# Altium schematic symbol library PowerUnits.SchLib: 39 symbols
Pins are listed as number, name and electrical type; pins without a type are passive.

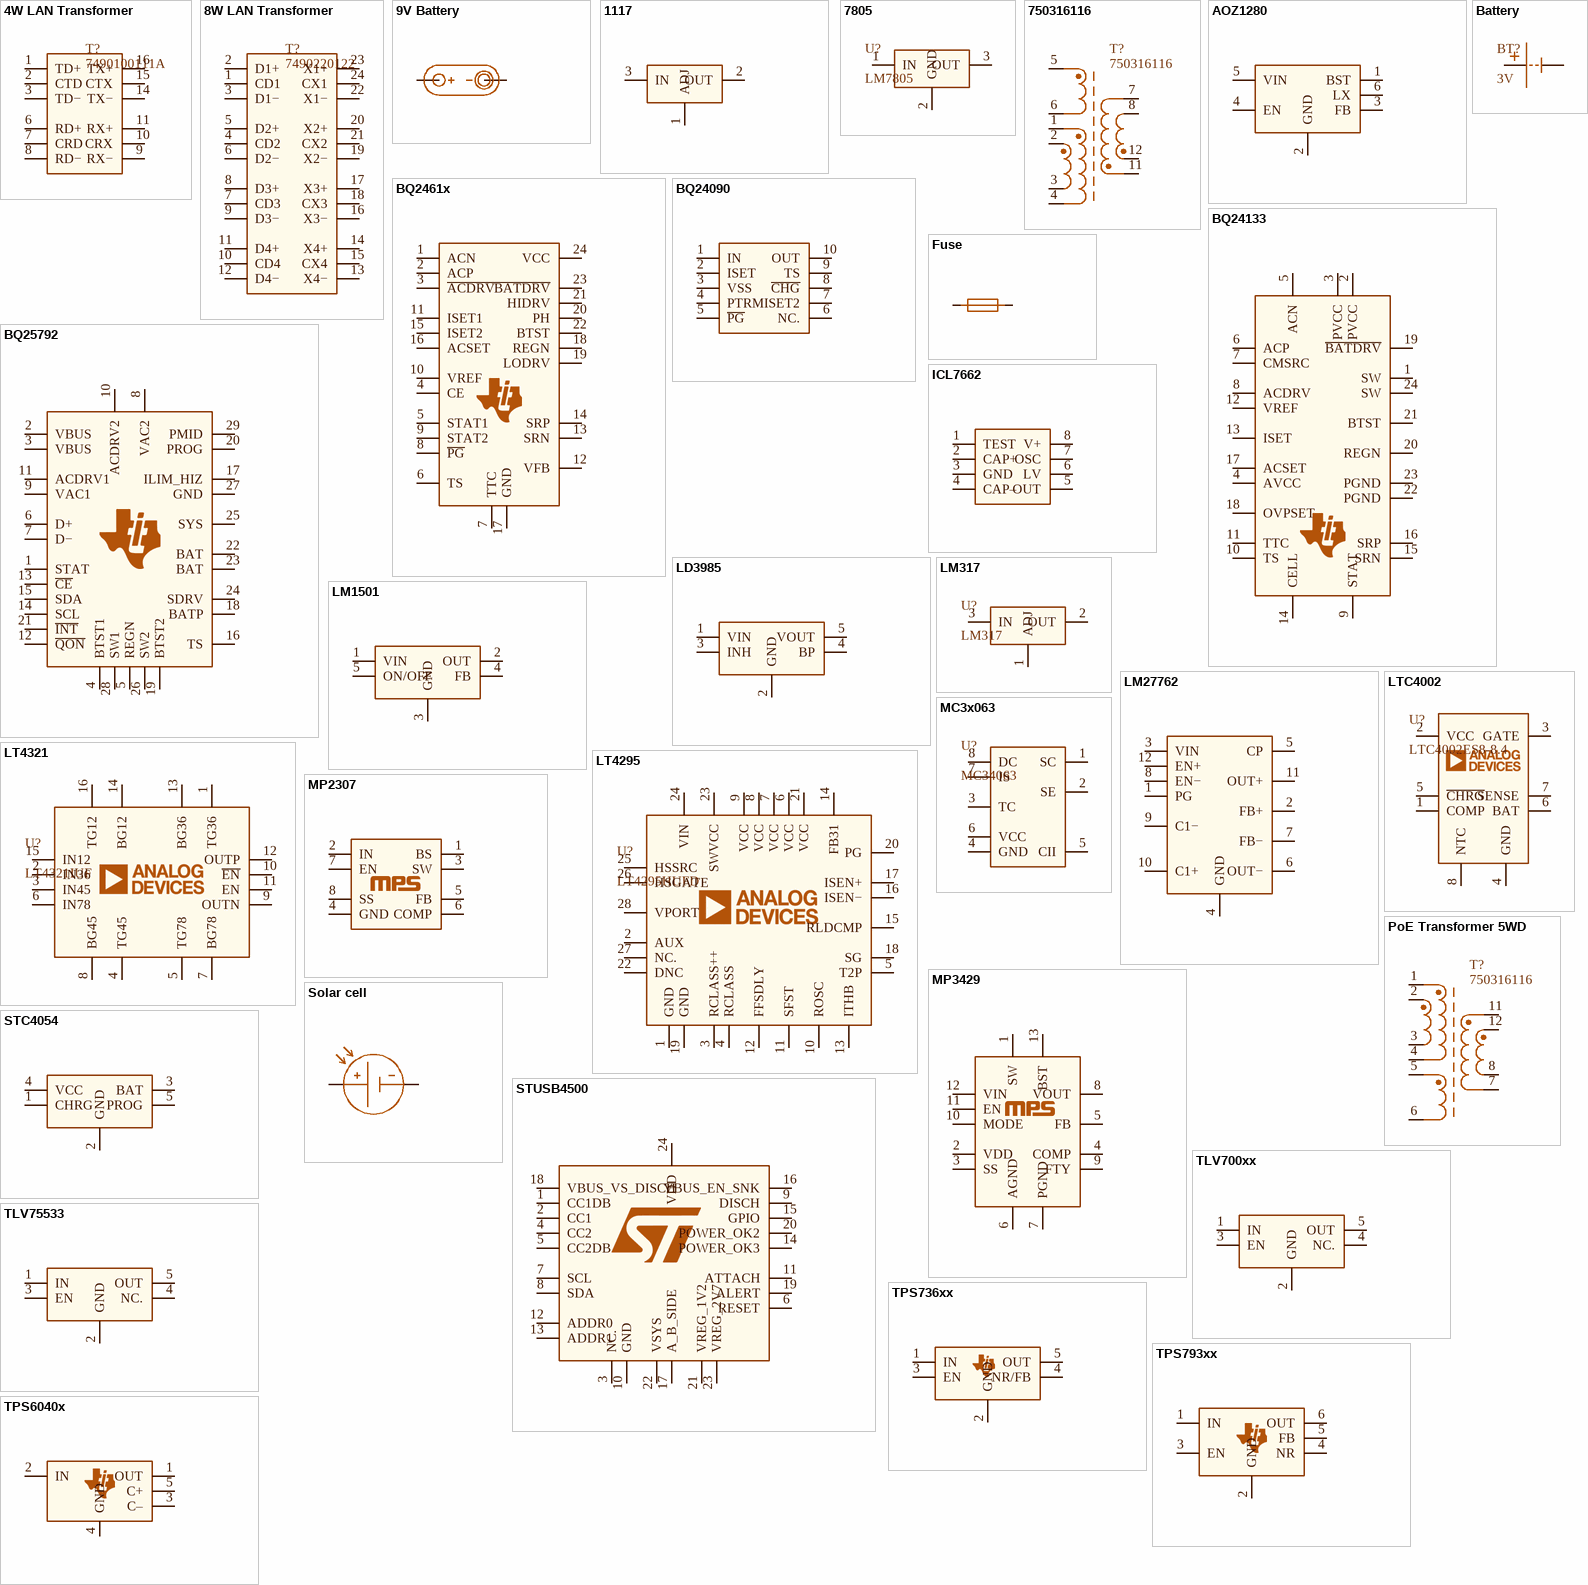
[diagram p0: symbols 4W LAN Transformer to TPS6040x]

## 4W LAN Transformer
designator T?, comment 7490100111A
Part Number: 7490100111A
footprint 4W LAN Transformer (Footprint not found)
pins: 1 TD+, 2 CTD, 3 TD−, 6 RD+, 7 CRD, 8 RD−, 9 RX−, 10 CRX, 11 RX+, 14 TX−, 15 CTX, 16 TX+

## 8W LAN Transformer
designator T?, comment 7490220122
Part Number: 7490220122
footprint 8W LAN Transformer
pins: 1 CD1, 2 D1+, 3 D1−, 4 CD2, 5 D2+, 6 D2−, 7 CD3, 8 D3+, 9 D3−, 10 CD4, 11 D4+, 12 D4−, 13 X4−, 14 X4+, 15 CX4, 16 X3−, 17 X3+, 18 CX3, 19 X2−, 20 X2+, 21 CX2, 22 X1−, 23 X1+, 24 CX1

## 9V Battery
designator BT?, comment 9V
PP3 (Krona); Part Number: 6LR61; Value: 9V
footprint _2-PAD
pins: 1 +, 2

## 1117
designator U?, comment LM1117MPX-3.3
Low-Dropout Linear Regulator; Part Number: LM1117MPX-3.3
footprint SOT-223
footprint TO-220-V
footprint TO-220-H
pins: 1 ADJ, 2 OUT, 3 IN

## 7805
designator U?, comment LM7805
Low-Dropout Linear Regulator; Part Number: LM7805
footprint TO-220-H
footprint TO-220-V
footprint D2PAK-123
footprint DPAK-123 (TO-252)
pins: 1 IN, 2 GND, 3 OUT

## 750316116
designator T?
WE-PoE+ Power over Ethernet Plus Transformer 12V 4A 2:1:1; Part Number: 750316116
footprint EFD20 POE TRANSFORMER
pins: 1, 2, 3, 4, 5, 6, 7, 8, 11, 12

## AOZ1280
designator U?, comment AOZ1280CI
EZBuck™ 1.2 A Simple Buck Regulator; Part Number: AOZ1280CI
footprint SOT-23-6
pins: 1 BST, 2 GND, 3 FB, 4 EN, 5 VIN, 6 LX

## Battery
designator BT?, comment 3V
Part Number: CR1220; Value: 3V
footprint _2-PAD
footprint CR1616-SMD
footprint CR2032 (Battery Holder Compact)
footprint CR1220 (CR1220, CR1225, CR1216)
pins: 1, 2

## BQ2461x
designator U?, comment BQ24610RGER
Stand-Alone 1- to 6-Cell Synchronous Buck Battery Charger Controller; Part Number: BQ24610RGER
footprint VQFN24
pins: 1 ACN, 2 ACP, 3 ~{ACDRV}, 4 CE, 5 STAT1, 6 TS, 7 TTC, 8 ~{PG}, 9 STAT2, 10 VREF, 11 ISET1, 12 VFB, 13 SRN, 14 SRP, 15 ISET2, 16 ACSET, 17 GND, 18 REGN, 19 LODRV, 20 PH, 21 HIDRV, 22 BTST, 23 ~{BATDRV}, 24 VCC

## BQ24090
designator U?
Part Number: BQ24090
footprint HVSSOP10
pins: 1 IN, 2 ISET, 3 VSS, 4 PTRM, 5 ~{PG}, 6 NC., 7 ISET2, 8 ~{CHG}, 9 TS, 10 OUT

## BQ24133
designator U?
Stand-Alone 1- to 3- Cell 2.5A Synchronous Buck Battery Charger With Integrated MOSFETs and Power Path Selector; Part Number: BQ24133
footprint VQFN24-RGY24
pins: 1 SW, 2 PVCC, 3 PVCC, 4 AVCC, 5 ACN, 6 ACP, 7 CMSRC, 8 ACDRV, 9 STAT, 10 TS, 11 TTC, 12 VREF, 13 ISET, 14 CELL, 15 SRN, 16 SRP, 17 ACSET, 18 OVPSET, 19 ~{BATDRV}, 20 REGN, 21 BTST, 22 PGND, 23 PGND, 24 SW

## BQ25792
designator U?, comment BQ24610RGER
I2C Controlled, 1-4 Cell, 5-A Buck-Boost Battery Charger with Dual-Input Selector and USB PD 3.0 OTG Output; Part Number: BQ24610RGER
footprint RQM0029A-MFG
pins: 1 STAT, 2 VBUS, 3 VBUS, 4 BTST1, 5 REGN, 6 D+, 7 D−, 8 VAC2, 9 VAC1, 10 ACDRV2, 11 ACDRV1, 12 ~{QON}, 13 ~{CE}, 14 SCL, 15 SDA, 16 TS, 17 ILIM_HIZ, 18 BATP, 19 BTST2, 20 PROG, 21 ~{INT}, 22 BAT, 23 BAT, 24 SDRV, 25 SYS, 26 SW2, 27 GND, 28 SW1, 29 PMID

## Fuse
designator F?, comment FH-102C
Current: 10A; Part Number: FH-102C
footprint _2-PAD
footprint FUSE_HOLDER_PTH-5x20MM
footprint FUSE_HOLDER_SMD-5x20MM
footprint 1808_FUSE_WITH_HOLDER
pins: 1, 2

## ICL7662
designator U?
CMOS Voltage Converter; Part Number: ICL7662
footprint SOIC8 (Small Outline Integrated Circuit)
pins: 1 TEST, 2 CAP+, 3 GND, 4 CAP–, 5 OUT, 6 LV, 7 OSC, 8 V+

## LD3985
designator U?, comment LD3985M33R
Ultra low drop and low noise BiCMOS voltage regulators, 150 mA; Part Number: LD3985M33R
footprint SOT-23-5
pins: 1 VIN, 2 GND, 3 INH, 4 BP, 5 VOUT

## LM317
designator U?
3-Terminal Adjustable Regulator; Part Number: LM317
footprint TO-220-V
footprint TO-220-H
footprint SOT-223
pins: 1 ADJ, 2 OUT, 3 IN

## LM1501
designator U?
5A, 25V, 150KHz (300KHz), Step-Down Switching Regulator; Part Number: LM1501
footprint TO-263-5L
pins: 1 VIN, 2 OUT, 3 GND, 4 FB, 5 ON/OFF

## LM27762
designator U?, comment LM27762DSSR
Low-Noise Positive and Negative Output Integrated / Charge Pump Plus LDO; Part Number: LM27762DSSR
footprint WSON12
pins: 1 PG, 2 FB+, 3 VIN, 4 GND, 5 CP, 6 OUT−, 7 FB−, 8 EN−, 9 C1−, 10 C1+, 11 OUT+, 12 EN+

## LT4295
designator U?, comment LT4295HUFD
IEEE 802.3bt PD Interface with Forward/Flyback Controller; Part Number: LT4295HUFD
footprint QFN28-4X5MM
pins: 1 GND, 2 AUX, 3 RCLASS++, 4 RCLASS, 5 T2P, 6 VCC, 7 VCC, 8 VCC, 9 VCC, 10 ROSC, 11 SFST, 12 FFSDLY, 13 ITHB, 14 FB31, 15 RLDCMP, 16 ISEN−, 17 ISEN+, 18 SG, 19 GND, 20 PG, 21 VCC, 22 DNC, 23 SWVCC, 24 VIN, 25 HSSRC, 26 HSGATE, 27 NC., 28 VPORT

## LT4321
designator U?, comment LT4321IUF
PoE Ideal Diode Bridge Controller; Part Number: LT4321IUF
footprint QFN16
pins: 1 TG36, 2 IN36, 3 IN45, 4 TG45, 5 TG78, 6 IN78, 7 BG78, 8 BG45, 9 OUTN, 10 ~{EN}, 11 EN, 12 OUTP, 13 BG36, 14 BG12, 15 IN12, 16 TG12

## LTC4002
designator U?, comment LTC4002ES8-8.4
Standalone Li-Ion Switch Mode Battery Charger; Part Number: LTC4002ES8-8.4
footprint SOIC8 (Small Outline Integrated Circuit)
pins: 1 COMP, 2 VCC, 3 GATE, 4 GND, 5 ~{CHRG}, 6 BAT, 7 SENSE, 8 NTC

## MC3x063
designator U?, comment MC34063
Part Number: MC34063
footprint SOIC8
footprint DIP8
pins: 1 SC, 2 SE, 3 TC, 4 GND, 5 CII, 6 VCC, 7 IS, 8 DC

## MP2307
designator U?
3A, 23V, 340KHz Synchronous Rectified Step-Down Converter; Part Number: MP2307
footprint SOIC8N
pins: 1 BS, 2 IN, 3 SW, 4 GND, 5 FB, 6 COMP, 7 EN, 8 SS

## MP3429
designator U?, comment MP3429GL-Z
16Vout, 21A, High-Efficiency, Fully Integrated, Synchronous, Boost Converter; Part Number: MP3429GL-Z
footprint QFN13-MP3429
pins: 1 SW, 2 VDD, 3 SS, 4 COMP, 5 FB, 6 AGND, 7 PGND, 8 VOUT, 9 FTY, 10 MODE, 11 EN, 12 VIN, 13 BST

## PoE Transformer 5WD
designator T?, comment 750316116
Part Number: 750316116
footprint EFD20 POE TRANSFORMER
footprint EFD20+EPC3630G-LF
pins: 1, 2, 3, 4, 5, 6, 7, 8, 11, 12

## Solar cell
designator BT?
footprint _2-PAD
pins: 1, 2

## STC4054
designator U?
800mA Standalone linear Li-Ion Battery charger with thermal regulation; Part Number: STC4054
footprint SOT-23-5
pins: 1 CHRG, 2 GND, 3 BAT, 4 VCC, 5 PROG

## STUSB4500
designator U?, comment STUSB4500QTR
Standalone USB PD sink controller with short-to-VBUS protections; Part Number: STUSB4500QTR
footprint VQFN24
pins: 1 CC1DB, 2 CC1, 3 NC., 4 CC2, 5 CC2DB, 6 RESET, 7 SCL, 8 SDA, 9 DISCH, 10 GND, 11 ATTACH, 12 ADDR0, 13 ADDR1, 14 POWER_OK3, 15 GPIO, 16 VBUS_EN_SNK, 17 A_B_SIDE, 18 VBUS_VS_DISCH, 19 ALERT, 20 POWER_OK2, 21 VREG_1V2, 22 VSYS, 23 VREG_2V7, 24 VDD

## TLV700xx
designator U?, comment TLV70018DCKR
200-mA, Low-IQ, Low-Dropout Regulator for Portable Devices; Part Number: TLV70018DCKR
footprint SOT-23-5
footprint SC-70-5
pins: 1 IN, 2 GND, 3 EN, 4 NC., 5 OUT

## TLV75533
designator U?, comment TLV75533PDBVR
Part Number: TLV75533PDBVR
footprint SOT-23-5
pins: 1 IN, 2 GND, 3 EN, 4 NC., 5 OUT

## TPS736xx
designator U?, comment TPS73601DBVR
Cap-Free, NMOS, 400-mA Low-Dropout Regulator with Reverse Current / Protection; Part Number: TPS73601DBVR
footprint SOT-23-5
pins: 1 IN, 2 GND, 3 EN, 4 NR/FB, 5 OUT

## TPS793xx
designator U?, comment TPS79301DBVR
Low-Noise, High PSRR, RF, 200-mA Low-Dropout Linear Regulators; Part Number: TPS79301DBVR
footprint SOT-23-6
pins: 1 IN, 2 GND, 3 EN, 4 NR, 5 FB, 6 OUT

## TPS6040x
designator U?, comment TPS60403DBVR
UNREGULATED 60-mA CHARGE PUMP VOLTAGE INVERTER; Part Number: TPS60403DBVR
footprint SOT-23-5
pins: 1 OUT, 2 IN, 3 C–, 4 GND, 5 C+

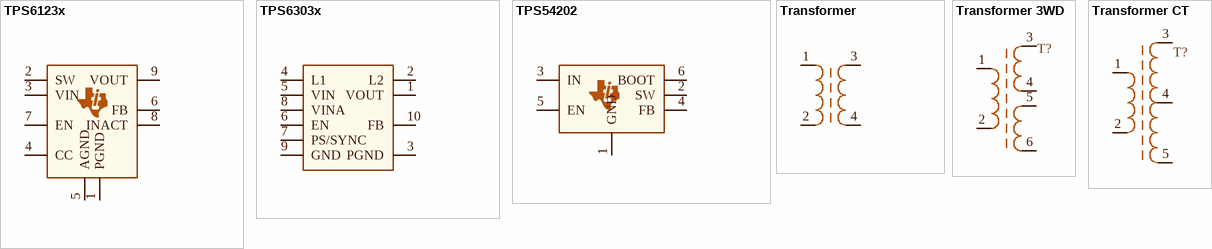
[diagram p1: symbols TPS6123x to Transformer CT]

## TPS6123x
designator U?, comment TPS61236PRWLR
8-A Valley Current Synchronous Boost Converters with Constant Current Output Feature; Part Number: TPS61236PRWLR
footprint RWL0009A
pins: 1 PGND, 2 SW, 3 VIN, 4 CC, 5 AGND, 6 FB, 7 EN, 8 INACT, 9 VOUT

## TPS6303x
designator U?, comment TPS63031DSKR
High Efficiency Single Inductor Buck-Boost Converter With 1-A Switches; Part Number: TPS63031DSKR
footprint WSON10
pins: 1 VOUT, 2 L2, 3 PGND, 4 L1, 5 VIN, 6 EN, 7 PS/SYNC, 8 VINA, 9 GND, 10 FB

## TPS54202
designator U?, comment TPS79301DBVR
4.5-V to 28-V Input, 2-A Output, EMI Friendly / Synchronous Step Down Converter; Part Number: TPS79301DBVR
footprint SOT-23-6
pins: 1 GND, 2 SW, 3 IN, 4 FB, 5 EN, 6 BOOT

## Transformer
designator T?
2-windings transformer; Value: 1:1
footprint _4-PAD
footprint PE-68386NLT
pins: 1, 2, 3, 4

## Transformer 3WD
designator T?
3-widings transformer; Value: 1:1
footprint _6-PAD
pins: 1, 2, 3, 4, 5, 6

## Transformer CT
designator T?
Center tap transformer; Value: 1:1
footprint _5-PAD
pins: 1, 2, 3, 4, 5